# Altium schematic symbol library Logic.SchLib: 3 symbols
Pins are listed as number, name and electrical type; pins without a type are passive.

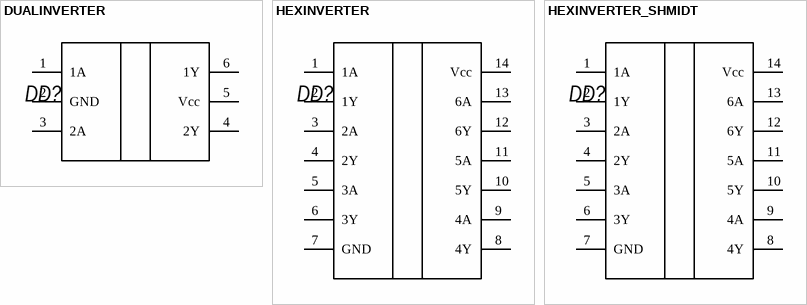
[diagram p0: symbols DUALINVERTER to HEXINVERTER_SHMIDT]

## DUALINVERTER
designator DD?, comment MCP2551  (value not drawn)
pins: 1 1A, 2 GND, 3 2A, 4 2Y, 5 Vcc, 6 1Y

## HEXINVERTER
designator DD?, comment MCP2551  (value not drawn)
pins: 1 1A, 2 1Y, 3 2A, 4 2Y, 5 3A, 6 3Y, 7 GND, 8 4Y, 9 4A, 10 5Y, 11 5A, 12 6Y, 13 6A, 14 Vcc

## HEXINVERTER_SHMIDT
designator DD?, comment MCP2551  (value not drawn)
pins: 1 1A, 2 1Y, 3 2A, 4 2Y, 5 3A, 6 3Y, 7 GND, 8 4Y, 9 4A, 10 5Y, 11 5A, 12 6Y, 13 6A, 14 Vcc